# Altium footprint library LED 0603.PcbLib: 1 footprints
Each footprint in its own frame and in the unit in brackets; x right, y up, seen from the top. Pads: shape width x height; smd on the part's side, far side on the other; paste and mask are expansions set on the pad; w line width, h text height; cw(c..) or ccw(c..) is an arc to the next point about the centre after c.
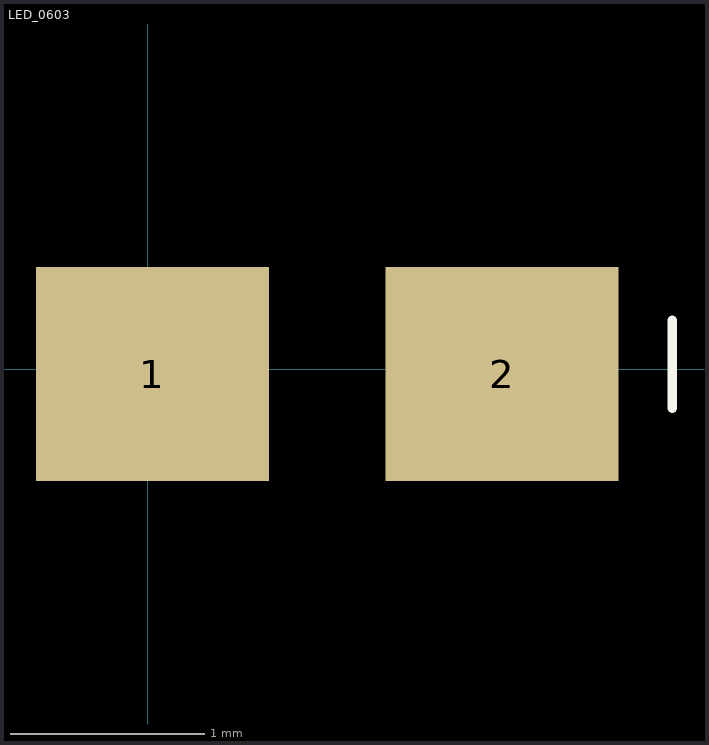
[diagram p0: the footprint, top view; thin cyan lines are the x and y axes]

## LED_0603 [mm]
pads (2):
  rect 1.2x1.1 smd: 1(0.025,-0.025) 2(1.825,-0.025)
Top Overlay:
  lines w0.05: 2.7,-0.2 2.7,0.25